# Altium footprint library PowerSO-20.PcbLib: 1 footprints
Each footprint in its own frame and in the unit in brackets; x right, y up, seen from the top. Pads: shape width x height; smd on the part's side, far side on the other; paste and mask are expansions set on the pad; w line width, h text height; cw(c..) or ccw(c..) is an arc to the next point about the centre after c.
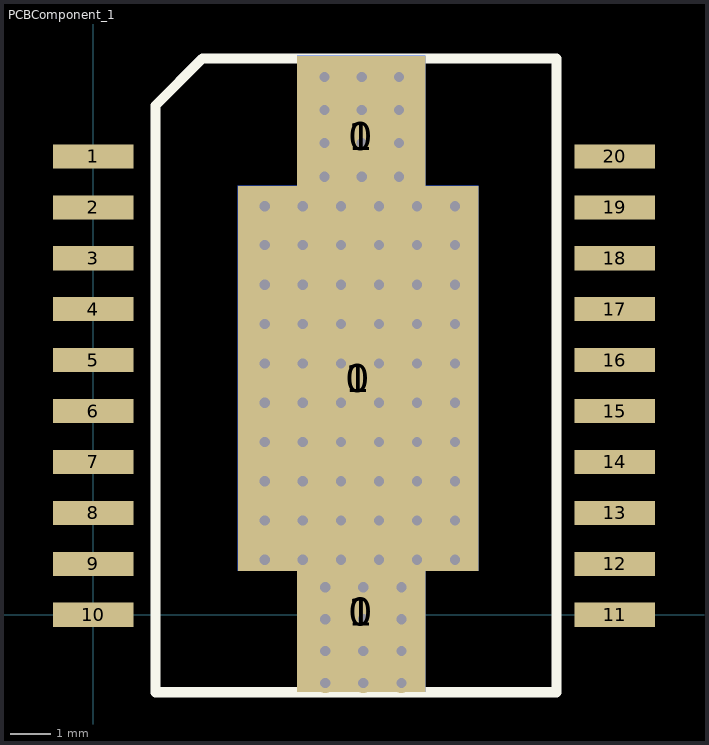
[diagram p0: the footprint, top view; thin cyan lines are the x and y axes]

## PCBComponent_1 [mm]
pads (27):
  rect 6x9.6 smd: 0(6.604,5.893)
  rect 3.2x4 smd: 0(6.68,0.076) 0(6.68,11.938) 1(6.68,0.076)
  rect 2x0.6 smd: 1(0,11.43) 2(0,10.16) 3(0,8.89) 4(0,7.62) 5(0,6.35) 6(0,5.08) 7(0,3.81) 8(0,2.54) 9(0,1.27) 10(0,0) 11(13,0) 12(13,1.27) 13(13,2.54) 14(13,3.81) 15(13,5.08) 16(13,6.35) 17(13,7.62) 18(13,8.89) 19(13,10.16) 20(13,11.43)
  rect 6x9.6 smd far side: 1(6.604,5.893)
  rect 3.2x4 smd far side: 1(6.68,0.076) 1(6.68,11.938)
via 5.766,13.411 diameter 0.508 hole 0.254
via 6.693,13.411 diameter 0.508 hole 0.254
via 7.62,13.411 diameter 0.508 hole 0.254
via 7.62,12.586 diameter 0.508 hole 0.254
via 6.693,12.586 diameter 0.508 hole 0.254
via 5.766,12.586 diameter 0.508 hole 0.254
via 7.62,11.76 diameter 0.508 hole 0.254
via 6.693,11.76 diameter 0.508 hole 0.254
via 5.766,11.76 diameter 0.508 hole 0.254
via 5.766,10.922 diameter 0.508 hole 0.254
via 6.693,10.922 diameter 0.508 hole 0.254
via 7.62,10.922 diameter 0.508 hole 0.254
via 4.272,10.185 diameter 0.508 hole 0.254
via 5.222,10.185 diameter 0.508 hole 0.254
via 6.172,10.185 diameter 0.508 hole 0.254
via 7.122,10.185 diameter 0.508 hole 0.254
via 8.072,10.185 diameter 0.508 hole 0.254
via 9.022,10.185 diameter 0.508 hole 0.254
via 9.022,9.22 diameter 0.508 hole 0.254
via 8.072,9.22 diameter 0.508 hole 0.254
via 7.122,9.22 diameter 0.508 hole 0.254
via 6.172,9.22 diameter 0.508 hole 0.254
via 5.222,9.22 diameter 0.508 hole 0.254
via 4.272,9.22 diameter 0.508 hole 0.254
via 9.022,8.23 diameter 0.508 hole 0.254
via 8.072,8.23 diameter 0.508 hole 0.254
via 7.122,8.23 diameter 0.508 hole 0.254
via 6.172,8.23 diameter 0.508 hole 0.254
via 5.222,8.23 diameter 0.508 hole 0.254
via 4.272,8.23 diameter 0.508 hole 0.254
via 9.022,7.247 diameter 0.508 hole 0.254
via 8.072,7.247 diameter 0.508 hole 0.254
via 7.122,7.247 diameter 0.508 hole 0.254
via 6.172,7.247 diameter 0.508 hole 0.254
via 5.222,7.247 diameter 0.508 hole 0.254
via 4.272,7.247 diameter 0.508 hole 0.254
via 9.022,6.268 diameter 0.508 hole 0.254
via 8.072,6.268 diameter 0.508 hole 0.254
via 7.122,6.268 diameter 0.508 hole 0.254
via 6.172,6.268 diameter 0.508 hole 0.254
via 5.222,6.268 diameter 0.508 hole 0.254
via 4.272,6.268 diameter 0.508 hole 0.254
via 9.022,5.289 diameter 0.508 hole 0.254
via 8.072,5.289 diameter 0.508 hole 0.254
via 7.122,5.289 diameter 0.508 hole 0.254
via 6.172,5.289 diameter 0.508 hole 0.254
via 5.222,5.289 diameter 0.508 hole 0.254
via 4.272,5.289 diameter 0.508 hole 0.254
via 9.022,4.31 diameter 0.508 hole 0.254
via 8.072,4.31 diameter 0.508 hole 0.254
via 7.122,4.31 diameter 0.508 hole 0.254
via 6.172,4.31 diameter 0.508 hole 0.254
via 5.222,4.31 diameter 0.508 hole 0.254
via 4.272,4.31 diameter 0.508 hole 0.254
via 9.022,3.33 diameter 0.508 hole 0.254
via 8.072,3.33 diameter 0.508 hole 0.254
via 7.122,3.33 diameter 0.508 hole 0.254
via 6.172,3.33 diameter 0.508 hole 0.254
via 5.222,3.33 diameter 0.508 hole 0.254
via 4.272,3.33 diameter 0.508 hole 0.254
via 9.022,2.351 diameter 0.508 hole 0.254
via 8.072,2.351 diameter 0.508 hole 0.254
via 7.122,2.351 diameter 0.508 hole 0.254
via 6.172,2.351 diameter 0.508 hole 0.254
via 5.222,2.351 diameter 0.508 hole 0.254
via 4.272,2.351 diameter 0.508 hole 0.254
via 9.022,1.372 diameter 0.508 hole 0.254
via 8.072,1.372 diameter 0.508 hole 0.254
via 7.122,1.372 diameter 0.508 hole 0.254
via 6.172,1.372 diameter 0.508 hole 0.254
via 5.222,1.372 diameter 0.508 hole 0.254
via 4.272,1.372 diameter 0.508 hole 0.254
via 7.681,0.686 diameter 0.508 hole 0.254
via 6.731,0.686 diameter 0.508 hole 0.254
via 5.781,0.686 diameter 0.508 hole 0.254
via 5.781,-0.11 diameter 0.508 hole 0.254
via 6.731,-0.11 diameter 0.508 hole 0.254
via 7.681,-0.11 diameter 0.508 hole 0.254
via 5.781,-0.906 diameter 0.508 hole 0.254
via 6.731,-0.906 diameter 0.508 hole 0.254
via 7.681,-0.906 diameter 0.508 hole 0.254
via 6.731,-1.702 diameter 0.508 hole 0.254
via 7.681,-1.702 diameter 0.508 hole 0.254
via 5.781,-1.702 diameter 0.508 hole 0.254
Top Overlay:
  lines w0.254: 1.549,-1.93 1.549,12.7 2.719,13.87 11.549,13.87 11.549,-1.93 1.549,-1.93